# Altium schematic symbol library buoys_sch_lib.SchLib: 6 symbols
Pins are listed as number, name and electrical type; pins without a type are passive.

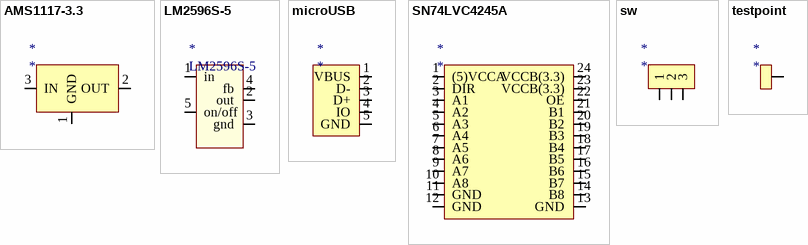
[diagram p0: symbols AMS1117-3.3 to testpoint]

## AMS1117-3.3
designator *
pins: 1 GND, 2 OUT, 3 IN

## LM2596S-5
designator *
pins: 1 in, 2 out, 3 gnd, 4 fb, 5 on/off

## microUSB
designator *
pins: 1 VBUS (power), 2 D-, 3 D+, 4 IO, 5 GND (power)

## SN74LVC4245A
designator *
pins: 1 (5)VCCA, 2 DIR, 3 A1, 4 A2, 5 A3, 6 A4, 7 A5, 8 A6, 9 A7, 10 A8, 11 GND, 12 GND, 13 GND, 14 B8, 15 B7, 16 B6, 17 B5, 18 B4, 19 B3, 20 B2, 21 B1, 22 OE, 23 VCCB(3.3), 24 VCCB(3.3)

## sw
designator *
pins: 1, 2, 3

## testpoint
designator *
pins: 1 TP